# Altium schematic symbol library lab3.SchLib: 5 symbols
Pins are listed as number, name and electrical type; pins without a type are passive.

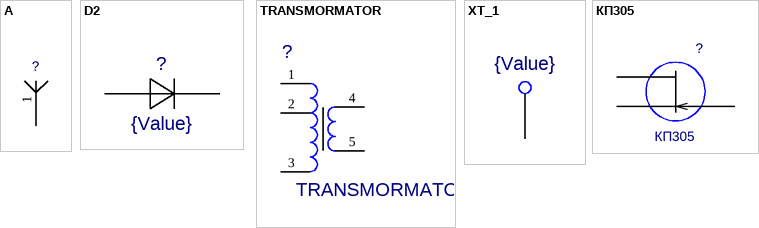
[diagram p0: symbols A to КП305]

## A
designator ?  (value not drawn)
Value: *
footprint A
pins: 1

## D2
designator ?  value {Value}  (hidden comment: D2)
footprint D2
pins: 1 K, 2 A

## TRANSMORMATOR
designator ?
Value: *
footprint TRANSFORMATOR
pins: 1, 2, 3, 4, 5

## XT_1
designator ?  value {Value}  (hidden comment: XT_1)
footprint A
pins: 1

## КП305
designator ?
Value: *
footprint КП305
pins: 1, 2, 3